# Altium footprint library JST_S4B-XH-A(LF)(SN).PcbLib: 1 footprints
Each footprint in its own frame and in the unit in brackets; x right, y up, seen from the top. Pads: shape width x height; smd on the part's side, far side on the other; paste and mask are expansions set on the pad; w line width, h text height; cw(c..) or ccw(c..) is an arc to the next point about the centre after c.
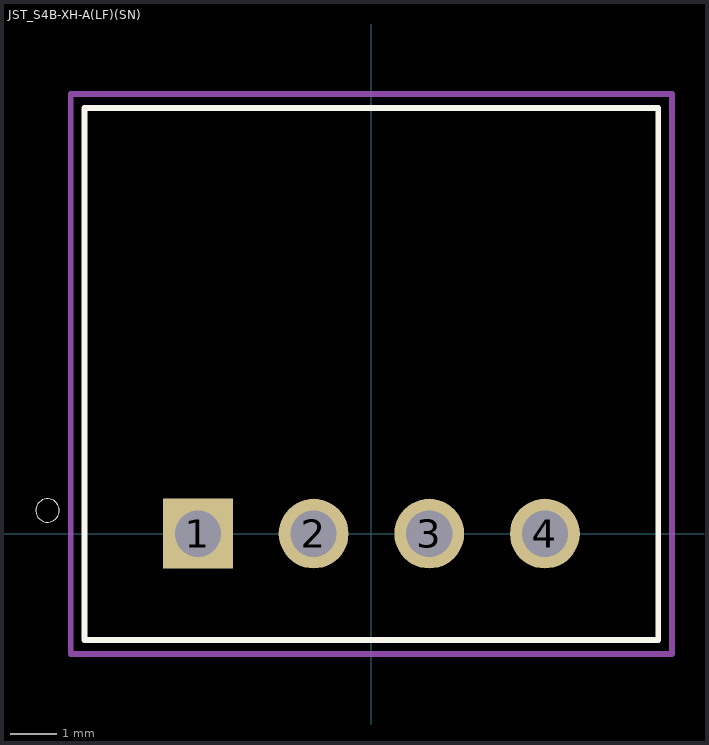
[diagram p0: the footprint, top view; thin cyan lines are the x and y axes]

## JST_S4B-XH-A(LF)(SN) [mm]
pads (4):
  rect 1.508x1.508 / inner round 1.508 / far side rect 1.508x1.508 hole 1: 1(-3.75,0)
  round 1.508 hole 1: 2(-1.25,0) 3(1.25,0) 4(3.75,0)
Top Overlay:
  circle w0: c-7,0.5 r0.254
  lines w0.127: -6.2,-2.3 -6.2,9.2 6.2,9.2 6.2,-2.3 -6.2,-2.3
Mechanical 15:
  lines w0.127: -6.5,-2.6 -6.5,9.5 6.5,9.5 6.5,-2.6 -6.5,-2.6
3D body "step_temp.STEP": height 6.15, standoff -3.4, extent -6.2,-2.194 6.2,9.306